# Altium integrated library ON Semi Signal Management Audio Switches.IntLib: 38 symbols (part 1 of 2)
Pins are listed as number, name and electrical type; pins without a type are passive.

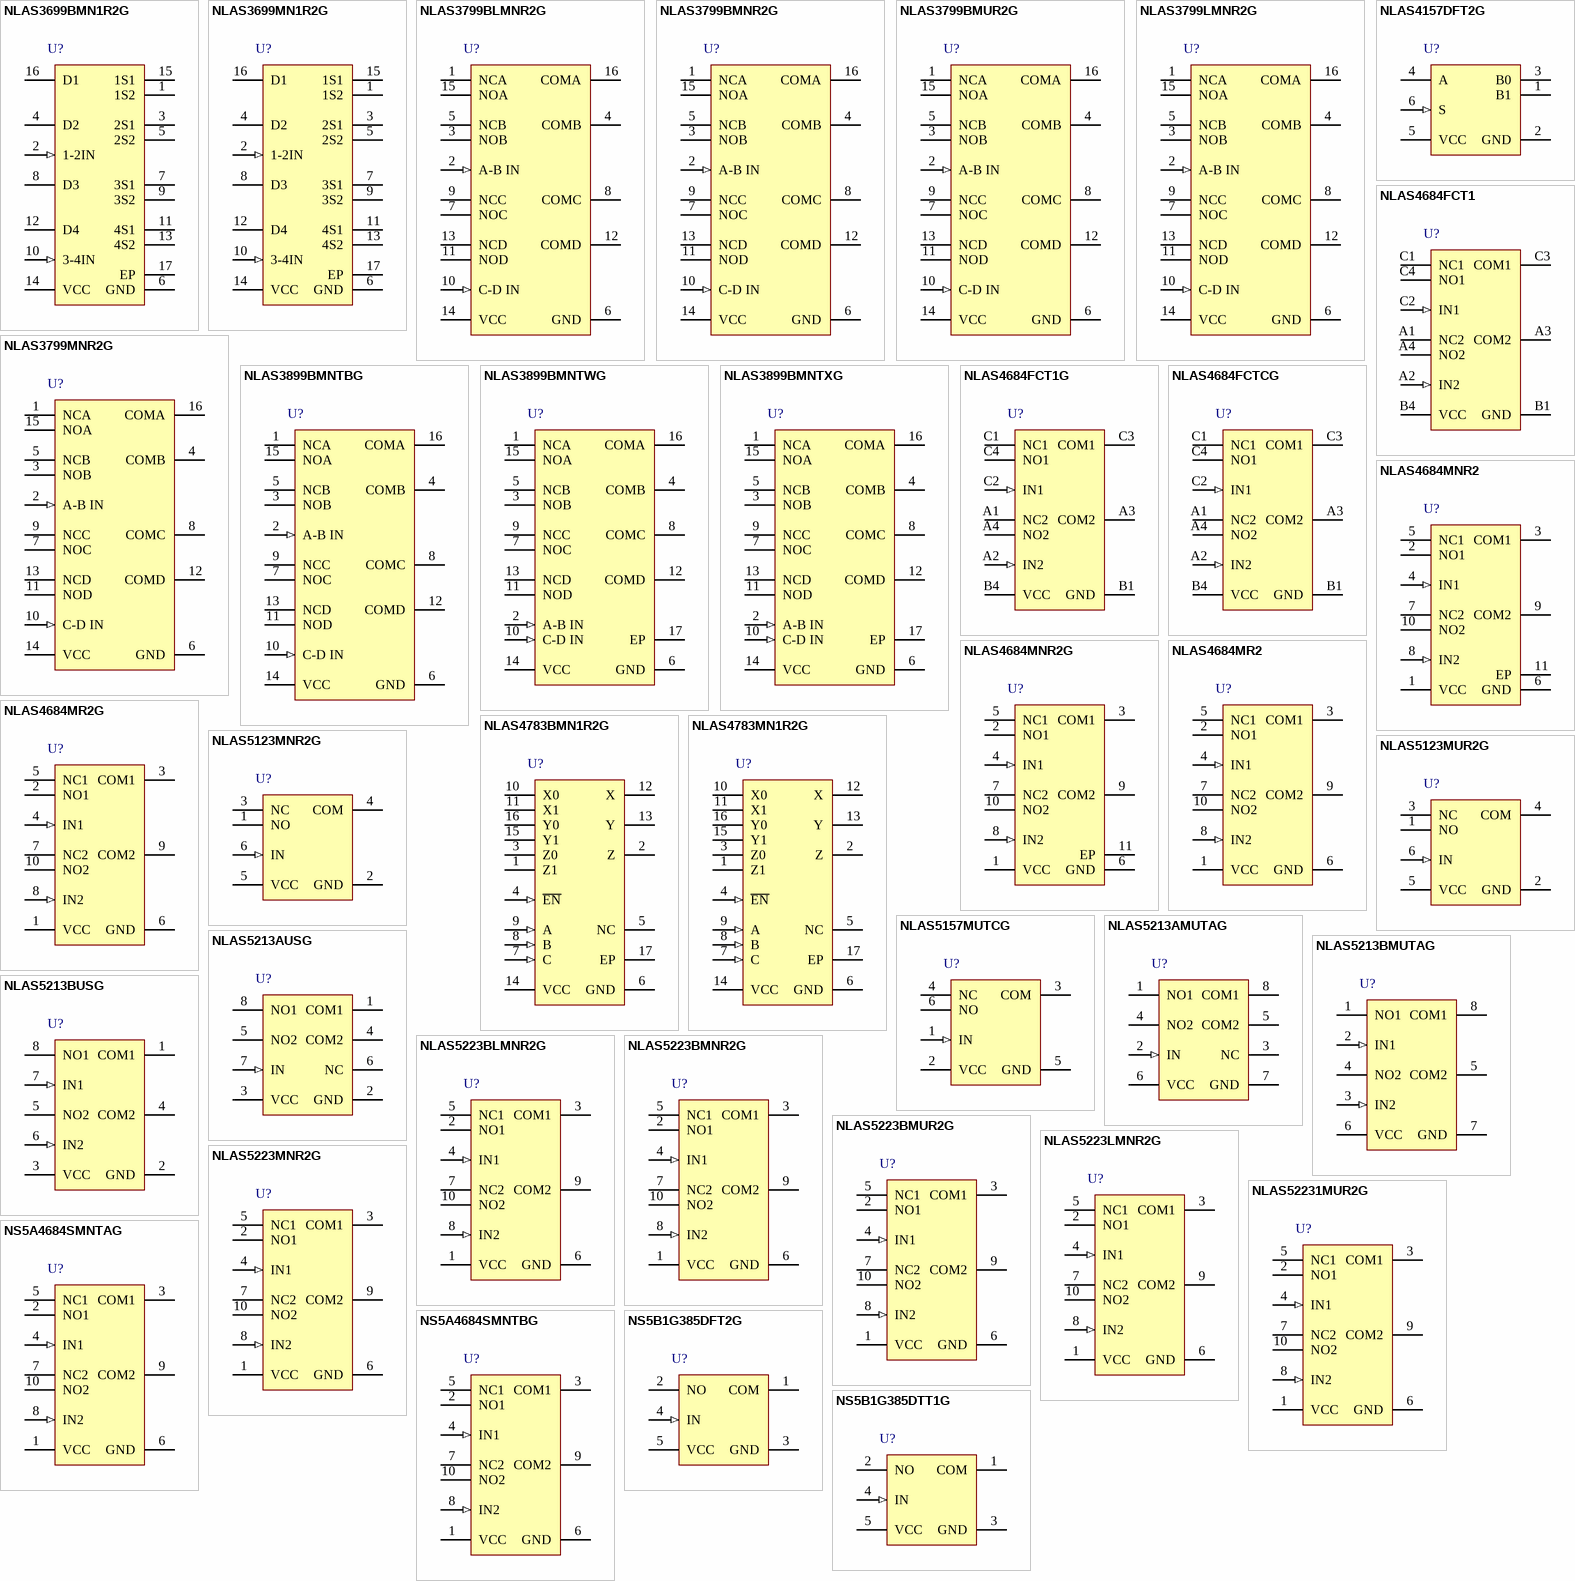
[diagram p0: symbols NLAS3699BMN1R2G to NS5B1G385DTT1G]

## NLAS3699BMN1R2G
designator U?
Dual DPDT Ultra-Low RON Switch, 1.65 to 4.5 V, -40 to 85 degC, 16-Pin QFN, Pb-Free, Tape and Reel; Manufacturer: On Semiconductor; PartNumber: NLAS3699BMN1R2G; VCC Max (V): 4.5; VCC Min (V): 1.65; DatasheetVersion: Rev. 0; PackageVersion: Rev. A, 06/2008; PackageReference: QFN-16-485AE-01_A; PackageDescription: 16-Pin Quad Flat No-Lead, Body 3 x 3 mm, Pitch 0.5 mm; Supplier 1: Digi-Key; Supplier Part Number 1: NLAS3699BMN1R2GOSTR-ND; Supplier 2: Digi-Key; Supplier Part Number 2: NLAS3699BMN1R2GOSCT-ND; Supplier 3: Mouser; Supplier Part Number 3: 863-NLAS3699BMN1R2G; Packing: Tape and Reel; RoHS: TRUE; Mounting Technology: Surface Mount; Code_JEDEC: MO-220; ComponentLink1Description: Manufacturer URL; ComponentLink1URL: http://www.onsemi.com/; ComponentLink2Description: Datasheet; ComponentLink2URL: http://www.onsemi.cn/pub_link/Collateral/NLAS3699B.PDF; ComponentLink3Description: Package Specification; ComponentLink3URL: http://www.onsemi.cn/pub_link/Collateral/NLAS3899B-D.PDF
footprint ONSC-QFN-16-485AE-01_A_N (QFN, 16-Leads, Body 3x3mm, Pitch 0.5mm, Thermal Pad 1.4x1.4mm, IPC Medium Density)
footprint ONSC-QFN-16-485AE-01_A_L (QFN, 16-Leads, Body 3x3mm, Pitch 0.5mm, Thermal Pad 1.4x1.4mm, IPC High Density)
footprint ONSC-QFN-16-485AE-01_A_M (QFN, 16-Leads, Body 3x3mm, Pitch 0.5mm, Thermal Pad 1.4x1.4mm, IPC Low Density)
pins: 1 1S2 "Independent Channels", 2 1-2IN (in) "Controls", 3 2S1 "Independent Channels", 4 D2 "Common Channels", 5 2S2 "Independent Channels", 6 GND (power) "Ground (V)", 7 3S1 "Independent Channels", 8 D3 "Common Channels", 9 3S2 "Independent Channels", 10 3-4IN (in) "Controls", 11 4S1 "Independent Channels", 12 D4 "Common Channels", 13 4S2 "Independent Channels", 14 VCC (power) "Positive Supply Voltage", 15 1S1 "Independent Channels", 16 D1 "Common Channels", 17 EP

## NLAS3699MN1R2G
designator U?
Dual DPDT Ultra-Low RON Switch, 1.65 to 3.6 V, -40 to 85 degC, 16-Pin QFN, Pb-Free, Tape and Reel; Manufacturer: On Semiconductor; PartNumber: NLAS3699MN1R2G; VCC Max (V): 3.6; VCC Min (V): 1.65; DatasheetVersion: Rev. 5; PackageVersion: Rev. A, 06/2008; PackageReference: QFN-16-485AE-01_A; PackageDescription: 16-Pin Quad Flat No-Lead, Body 3 x 3 mm, Pitch 0.5 mm; Supplier 1: Digi-Key; Supplier Part Number 1: NLAS3699MN1R2GOSTR-ND; Supplier 2: Digi-Key; Supplier Part Number 2: NLAS3699MN1R2GOSCT-ND; Supplier 3: Mouser; Supplier Part Number 3: 863-NLAS3699MN1R2G; Packing: Tape and Reel; RoHS: TRUE; Mounting Technology: Surface Mount; Code_JEDEC: MO-220; ComponentLink1Description: Manufacturer URL; ComponentLink1URL: http://www.onsemi.com/; ComponentLink2Description: Datasheet; ComponentLink2URL: http://www.onsemi.cn/pub_link/Collateral/NLAS3699-D.PDF; ComponentLink3Description: Package Specification; ComponentLink3URL: http://www.onsemi.cn/pub_link/Collateral/NLAS3899B-D.PDF
footprint ONSC-QFN-16-485AE-01_A_N (QFN, 16-Leads, Body 3x3mm, Pitch 0.5mm, Thermal Pad 1.4x1.4mm, IPC Medium Density)
footprint ONSC-QFN-16-485AE-01_A_L (QFN, 16-Leads, Body 3x3mm, Pitch 0.5mm, Thermal Pad 1.4x1.4mm, IPC High Density)
footprint ONSC-QFN-16-485AE-01_A_M (QFN, 16-Leads, Body 3x3mm, Pitch 0.5mm, Thermal Pad 1.4x1.4mm, IPC Low Density)
pins: 1 1S2 "Independent Channels", 2 1-2IN (in) "Controls", 3 2S1 "Independent Channels", 4 D2 "Common Channels", 5 2S2 "Independent Channels", 6 GND (power) "Ground (V)", 7 3S1 "Independent Channels", 8 D3 "Common Channels", 9 3S2 "Independent Channels", 10 3-4IN (in) "Controls", 11 4S1 "Independent Channels", 12 D4 "Common Channels", 13 4S2 "Independent Channels", 14 VCC (power) "Positive Supply Voltage", 15 1S1 "Independent Channels", 16 D1 "Common Channels", 17 EP

## NLAS3799BLMNR2G
designator U?
Dual DPDT Ultra-Low RON Switch, 1.65 to 4.5 V, -40 to 85 degC, 16-Pin WQFN, Pb-Free, Tape and Reel; Manufacturer: On Semiconductor; PartNumber: NLAS3799BLMNR2G; VCC Max (V): 4.5; VCC Min (V): 1.65; DatasheetVersion: Rev. 3; PackageVersion: Rev. B, 06/2008; PackageReference: WQFN-16-488AP-01; PackageDescription: 16-Pin Quad Flat No-Lead, Body 1.8 x 2.6 mm, Pitch 0.4 mm; Supplier 1: Digi-Key; Supplier Part Number 1: NLAS3799BLMNR2GOSTR-ND; Supplier 2: Digi-Key; Supplier Part Number 2: NLAS3799BLMNR2GOSCT-ND; Supplier 3: Mouser; Supplier Part Number 3: 863-NLAS3799BLMNR2G; Packing: Tape and Reel; RoHS: TRUE; Mounting Technology: Surface Mount; ComponentLink1Description: Manufacturer URL; ComponentLink1URL: http://www.onsemi.com/; ComponentLink2Description: Datasheet; ComponentLink2URL: http://www.onsemi.cn/pub_link/Collateral/NLAS3799B-D.PDF; ComponentLink3Description: Package Specification; ComponentLink3URL: http://www.onsemi.cn/pub_link/Collateral/488AP.PDF
footprint ONSC-WQFN-16-488AP-01_V (QFN, 16-Leads, Body 2.6x1.8mm, Pitch 0.4mm)
pins: 1 NCA "Independent Channels", 2 A-B IN (in) "Controls", 3 NOB "Independent Channels", 4 COMB "Common Channels", 5 NCB "Independent Channels", 6 GND (power) "Ground (V)", 7 NOC "Independent Channels", 8 COMC "Common Channels", 9 NCC "Independent Channels", 10 C-D IN (in) "Controls", 11 NOD "Independent Channels", 12 COMD "Common Channels", 13 NCD "Independent Channels", 14 VCC (power) "Positive Supply Voltage", 15 NOA "Independent Channels", 16 COMA "Common Channels"

## NLAS3799BMNR2G
designator U?
Dual DPDT Ultra-Low RON Switch, 1.65 to 4.5 V, -40 to 85 degC, 16-Pin WQFN, Pb-Free, Tape and Reel; Manufacturer: On Semiconductor; PartNumber: NLAS3799BMNR2G; VCC Max (V): 4.5; VCC Min (V): 1.65; DatasheetVersion: Rev. 3; PackageVersion: Rev. B, 06/2008; PackageReference: WQFN-16-488AP-01; PackageDescription: 16-Pin Quad Flat No-Lead, Body 1.8 x 2.6 mm, Pitch 0.4 mm; Supplier 1: Digi-Key; Supplier Part Number 1: NLAS3799BMNR2GOSTR-ND; Supplier 2: Digi-Key; Supplier Part Number 2: NLAS3799BMNR2GOSCT-ND; Supplier 3: Mouser; Supplier Part Number 3: 863-NLAS3799BMNR2G; Packing: Tape and Reel; RoHS: TRUE; Mounting Technology: Surface Mount; ComponentLink1Description: Manufacturer URL; ComponentLink1URL: http://www.onsemi.com/; ComponentLink2Description: Datasheet; ComponentLink2URL: http://www.onsemi.cn/pub_link/Collateral/NLAS3799B-D.PDF; ComponentLink3Description: Package Specification; ComponentLink3URL: http://www.onsemi.cn/pub_link/Collateral/488AP.PDF
footprint ONSC-WQFN-16-488AP-01_V (QFN, 16-Leads, Body 2.6x1.8mm, Pitch 0.4mm)
pins: 1 NCA "Independent Channels", 2 A-B IN (in) "Controls", 3 NOB "Independent Channels", 4 COMB "Common Channels", 5 NCB "Independent Channels", 6 GND (power) "Ground (V)", 7 NOC "Independent Channels", 8 COMC "Common Channels", 9 NCC "Independent Channels", 10 C-D IN (in) "Controls", 11 NOD "Independent Channels", 12 COMD "Common Channels", 13 NCD "Independent Channels", 14 VCC (power) "Positive Supply Voltage", 15 NOA "Independent Channels", 16 COMA "Common Channels"

## NLAS3799BMUR2G
designator U?
Dual DPDT Ultra-Low RON Switch, 1.65 to 4.5 V, -40 to 85 degC, 16-Pin UQFN, Pb-Free, Tape and Reel; Manufacturer: On Semiconductor; PartNumber: NLAS3799BMUR2G; VCC Max (V): 4.5; VCC Min (V): 1.65; DatasheetVersion: Rev. 3; PackageVersion: Rev. A, 08/2007; PackageReference: UQFN-16-488AU-01; PackageDescription: 16-Pin Quad Flat No-Lead, Body 1.8 x 2.6 mm, Pitch 0.4 mm; Supplier 1: Digi-Key; Supplier Part Number 1: NLAS3799BMUR2GOSTR-ND; Supplier 2: Digi-Key; Supplier Part Number 2: NLAS3799BMUR2GOSCT-ND; Supplier 3: Mouser; Supplier Part Number 3: 863-NLAS3799BMUR2G; Packing: Tape and Reel; RoHS: TRUE; Mounting Technology: Surface Mount; ComponentLink1Description: Manufacturer URL; ComponentLink1URL: http://www.onsemi.com/; ComponentLink2Description: Datasheet; ComponentLink2URL: http://www.onsemi.cn/pub_link/Collateral/NLAS3799B-D.PDF; ComponentLink3Description: Package Specification; ComponentLink3URL: http://www.onsemi.cn/pub_link/Collateral/488AU.PDF
footprint ONSC-UQFN-16-488AU-01_V (QFN, 16-Leads, Body 2.6x1.8mm, Pitch 0.4mm)
pins: 1 NCA "Independent Channels", 2 A-B IN (in) "Controls", 3 NOB "Independent Channels", 4 COMB "Common Channels", 5 NCB "Independent Channels", 6 GND (power) "Ground (V)", 7 NOC "Independent Channels", 8 COMC "Common Channels", 9 NCC "Independent Channels", 10 C-D IN (in) "Controls", 11 NOD "Independent Channels", 12 COMD "Common Channels", 13 NCD "Independent Channels", 14 VCC (power) "Positive Supply Voltage", 15 NOA "Independent Channels", 16 COMA "Common Channels"

## NLAS3799LMNR2G
designator U?
Dual DPDT Ultra-Low RON Switch, 1.65 to 3.6 V, -40 to 85 degC, 16-Pin WQFN, Pb-Free, Tape and Reel; Manufacturer: On Semiconductor; PartNumber: NLAS3799LMNR2G; VCC Max (V): 3.6; VCC Min (V): 1.65; DatasheetVersion: Rev. 3; PackageVersion: Rev. B, 06/2008; PackageReference: WQFN-16-488AP-01; PackageDescription: 16-Pin Quad Flat No-Lead, Body 1.8 x 2.6 mm, Pitch 0.4 mm; Supplier 1: Digi-Key; Supplier Part Number 1: NLAS3799LMNR2GOSTR-ND; Supplier 2: Digi-Key; Supplier Part Number 2: NLAS3799LMNR2GOSCT-ND; Supplier 3: Newark; Supplier Part Number 3: 79K1893; Supplier 4: Mouser; Supplier Part Number 4: 863-NLAS3799LMNR2G; Packing: Tape and Reel; RoHS: TRUE; Mounting Technology: Surface Mount; ComponentLink1Description: Manufacturer URL; ComponentLink1URL: http://www.onsemi.com/; ComponentLink2Description: Datasheet; ComponentLink2URL: http://www.onsemi.cn/pub_link/Collateral/NLAS3799-D.PDF; ComponentLink3Description: Package Specification; ComponentLink3URL: http://www.onsemi.cn/pub_link/Collateral/488AP.PDF
footprint ONSC-WQFN-16-488AP-01_V (QFN, 16-Leads, Body 2.6x1.8mm, Pitch 0.4mm)
pins: 1 NCA "Independent Channels", 2 A-B IN (in) "Controls", 3 NOB "Independent Channels", 4 COMB "Common Channels", 5 NCB "Independent Channels", 6 GND (power) "Ground (V)", 7 NOC "Independent Channels", 8 COMC "Common Channels", 9 NCC "Independent Channels", 10 C-D IN (in) "Controls", 11 NOD "Independent Channels", 12 COMD "Common Channels", 13 NCD "Independent Channels", 14 VCC (power) "Positive Supply Voltage", 15 NOA "Independent Channels", 16 COMA "Common Channels"

## NLAS3799MNR2G
designator U?
Dual DPDT Ultra-Low RON Switch, 1.65 to 3.6 V, -40 to 85 degC, 16-Pin WQFN, Pb-Free, Tape and Reel; Manufacturer: On Semiconductor; PartNumber: NLAS3799MNR2G; VCC Max (V): 3.6; VCC Min (V): 1.65; DatasheetVersion: Rev. 3; PackageVersion: Rev. B, 06/2008; PackageReference: WQFN-16-488AP-01; PackageDescription: 16-Pin Quad Flat No-Lead, Body 1.8 x 2.6 mm, Pitch 0.4 mm; Supplier 1: Digi-Key; Supplier Part Number 1: NLAS3799MNR2GOSTR-ND; Supplier 2: Digi-Key; Supplier Part Number 2: NLAS3799MNR2GOSCT-ND; Supplier 3: Mouser; Supplier Part Number 3: 863-NLAS3799MNR2G; Packing: Tape and Reel; RoHS: TRUE; Mounting Technology: Surface Mount; ComponentLink1Description: Manufacturer URL; ComponentLink1URL: http://www.onsemi.com/; ComponentLink2Description: Datasheet; ComponentLink2URL: http://www.onsemi.cn/pub_link/Collateral/NLAS3799-D.PDF; ComponentLink3Description: Package Specification; ComponentLink3URL: http://www.onsemi.cn/pub_link/Collateral/488AP.PDF
footprint ONSC-WQFN-16-488AP-01_V (QFN, 16-Leads, Body 2.6x1.8mm, Pitch 0.4mm)
pins: 1 NCA "Independent Channels", 2 A-B IN (in) "Controls", 3 NOB "Independent Channels", 4 COMB "Common Channels", 5 NCB "Independent Channels", 6 GND (power) "Ground (V)", 7 NOC "Independent Channels", 8 COMC "Common Channels", 9 NCC "Independent Channels", 10 C-D IN (in) "Controls", 11 NOD "Independent Channels", 12 COMD "Common Channels", 13 NCD "Independent Channels", 14 VCC (power) "Positive Supply Voltage", 15 NOA "Independent Channels", 16 COMA "Common Channels"

## NLAS3899BMNTBG
designator U?
Dual DPDT Low RON, Low Capacitance Switch, 1.65 to 4.3 V, -40 to 85 degC, 16-Pin WQFN, Pb-Free, Tape and Reel; Manufacturer: On Semiconductor; PartNumber: NLAS3899BMNTBG; Icc Max (uA): 2; VCC Max (V): 4.3; VCC Min (V): 1.65; DatasheetVersion: Rev. 1; PackageVersion: Rev. B, 06/2008; PackageReference: WQFN-16-488AP-01; PackageDescription: 16-Pin Quad Flat No-Lead, Body 1.8 x 2.6 mm, Pitch 0.4 mm; Supplier 1: Digi-Key; Supplier Part Number 1: NLAS3899BMNTBG-ND; Supplier 2: Newark; Supplier Part Number 2: 13P5566; Supplier 3: Mouser; Supplier Part Number 3: 863-NLAS3899BMNTBG; Packing: Tape and Reel; RoHS: TRUE; Mounting Technology: Surface Mount; ComponentLink1Description: Manufacturer URL; ComponentLink1URL: http://www.onsemi.com/; ComponentLink2Description: Datasheet; ComponentLink2URL: http://www.onsemi.cn/pub_link/Collateral/NLAS3899B-D.PDF; ComponentLink3Description: Package Specification; ComponentLink3URL: http://www.onsemi.cn/pub_link/Collateral/488AP.PDF
footprint ONSC-WQFN-16-488AP-01_V (QFN, 16-Leads, Body 2.6x1.8mm, Pitch 0.4mm)
pins: 1 NCA "Independent Channels", 2 A-B IN (in) "Controls", 3 NOB "Independent Channels", 4 COMB "Common Channels", 5 NCB "Independent Channels", 6 GND (power) "Ground (V)", 7 NOC "Independent Channels", 8 COMC "Common Channels", 9 NCC "Independent Channels", 10 C-D IN (in) "Controls", 11 NOD "Independent Channels", 12 COMD "Common Channels", 13 NCD "Independent Channels", 14 VCC (power) "Positive Supply Voltage", 15 NOA "Independent Channels", 16 COMA "Common Channels"

## NLAS3899BMNTWG
designator U?
Dual DPDT Low RON, Low Capacitance Switch, 1.65 to 4.3 V, -40 to 85 degC, 16-Pin QFN, Pb-Free, Tape and Reel; Manufacturer: On Semiconductor; PartNumber: NLAS3899BMNTWG; Icc Max (uA): 2; VCC Max (V): 4.3; VCC Min (V): 1.65; DatasheetVersion: Rev. 1; PackageVersion: Rev. A, 06/2008; PackageReference: QFN-16-485AE-01_A; PackageDescription: 16-Pin Quad Flat No-Lead, Body 3 x 3 mm, Pitch 0.5 mm; Supplier 1: Digi-Key; Supplier Part Number 1: NLAS3899BMNTWG-ND; Supplier 2: Newark; Supplier Part Number 2: 72W2266; Supplier 3: Mouser; Supplier Part Number 3: 863-NLAS3899BMNTWG; Packing: Tape and Reel; RoHS: TRUE; Mounting Technology: Surface Mount; Code_JEDEC: MO-220; ComponentLink1Description: Manufacturer URL; ComponentLink1URL: http://www.onsemi.com/; ComponentLink2Description: Datasheet; ComponentLink2URL: http://www.onsemi.cn/pub_link/Collateral/NLAS3899B-D.PDF; ComponentLink3Description: Package Specification; ComponentLink3URL: http://www.onsemi.cn/pub_link/Collateral/NLAS3899B-D.PDF
footprint ONSC-QFN-16-485AE-01_A_N (QFN, 16-Leads, Body 3x3mm, Pitch 0.5mm, Thermal Pad 1.4x1.4mm, IPC Medium Density)
footprint ONSC-QFN-16-485AE-01_A_L (QFN, 16-Leads, Body 3x3mm, Pitch 0.5mm, Thermal Pad 1.4x1.4mm, IPC High Density)
footprint ONSC-QFN-16-485AE-01_A_M (QFN, 16-Leads, Body 3x3mm, Pitch 0.5mm, Thermal Pad 1.4x1.4mm, IPC Low Density)
pins: 1 NCA "Independent Channel", 2 A-B IN (in) "Control", 3 NOB "Independent Channel", 4 COMB "Common Channel", 5 NCB "Independent Channel", 6 GND (power) "Ground (V)", 7 NOC "Independent Channel", 8 COMC "Common Channel", 9 NCC "Independent Channel", 10 C-D IN (in) "Control", 11 NOD "Independent Channel", 12 COMD "Common Channel", 13 NCD "Independent Channel", 14 VCC (power) "Positive Supply Voltage", 15 NOA "Independent Channel", 16 COMA "Common Channel", 17 EP

## NLAS3899BMNTXG
designator U?
Dual DPDT Low RON, Low Capacitance Switch, 1.65 to 4.3 V, -40 to 85 degC, 16-Pin QFN, Pb-Free, Tape and Reel; Manufacturer: On Semiconductor; PartNumber: NLAS3899BMNTXG; Icc Max (uA): 2; VCC Max (V): 4.3; VCC Min (V): 1.65; DatasheetVersion: Rev. 1; PackageVersion: Rev. A, 06/2008; PackageReference: QFN-16-485AE-01_A; PackageDescription: 16-Pin Quad Flat No-Lead, Body 3 x 3 mm, Pitch 0.5 mm; Supplier 1: Digi-Key; Supplier Part Number 1: NLAS3899BMNTXG-ND; Supplier 2: Mouser; Supplier Part Number 2: 863-NLAS3899BMNTXG; Packing: Tape and Reel; RoHS: TRUE; Mounting Technology: Surface Mount; Code_JEDEC: MO-220; ComponentLink1Description: Manufacturer URL; ComponentLink1URL: http://www.onsemi.com/; ComponentLink2Description: Datasheet; ComponentLink2URL: http://www.onsemi.cn/pub_link/Collateral/NLAS3899B-D.PDF; ComponentLink3Description: Package Specification; ComponentLink3URL: http://www.onsemi.cn/pub_link/Collateral/NLAS3899B-D.PDF
footprint ONSC-QFN-16-485AE-01_A_N (QFN, 16-Leads, Body 3x3mm, Pitch 0.5mm, Thermal Pad 1.4x1.4mm, IPC Medium Density)
footprint ONSC-QFN-16-485AE-01_A_L (QFN, 16-Leads, Body 3x3mm, Pitch 0.5mm, Thermal Pad 1.4x1.4mm, IPC High Density)
footprint ONSC-QFN-16-485AE-01_A_M (QFN, 16-Leads, Body 3x3mm, Pitch 0.5mm, Thermal Pad 1.4x1.4mm, IPC Low Density)
pins: 1 NCA "Independent Channel", 2 A-B IN (in) "Control", 3 NOB "Independent Channel", 4 COMB "Common Channel", 5 NCB "Independent Channel", 6 GND (power) "Ground (V)", 7 NOC "Independent Channel", 8 COMC "Common Channel", 9 NCC "Independent Channel", 10 C-D IN (in) "Control", 11 NOD "Independent Channel", 12 COMD "Common Channel", 13 NCD "Independent Channel", 14 VCC (power) "Positive Supply Voltage", 15 NOA "Independent Channel", 16 COMA "Common Channel", 17 EP

## NLAS4157DFT2G
designator U?
SPDT, 1.0 Ohm RON Switch, 1.65 to 5.5 V, -40 to 85 degC, 6-Pin SC70, Pb-Free, Tape and Reel; Manufacturer: On Semiconductor; PartNumber: NLAS4157DFT2G; VCC Max (V): 5.5; VCC Min (V): 1.65; DatasheetVersion: Rev. 3; PackageVersion: Rev. W, 01/2006; PackageReference: SC70-6-419B-02_W; PackageDescription: 6-Pin Small Outline Transistor, Body 2 x 1.25 mm, Pitch 0.65 mm; Supplier 1: Digi-Key; Supplier Part Number 1: NLAS4157DFT2GOSTR-ND; Supplier 2: Digi-Key; Supplier Part Number 2: NLAS4157DFT2GOSCT-ND; Supplier 3: Digi-Key; Supplier Part Number 3: NLAS4157DFT2GOSDKR-ND; Supplier 4: Newark; Supplier Part Number 4: 26K5055; Supplier 5: Mouser; Supplier Part Number 5: 863-NLAS4157DFT2G; Packing: Tape and Reel; RoHS: TRUE; Mounting Technology: Surface Mount; ComponentLink1Description: Manufacturer URL; ComponentLink1URL: http://www.onsemi.com/; ComponentLink2Description: Datasheet; ComponentLink2URL: http://www.onsemi.cn/pub_link/Collateral/NLAS4157-D.PDF; ComponentLink3Description: Package Specification; ComponentLink3URL: http://www.onsemi.com/pub_link/Collateral/SMF05C-D.PDF
footprint ONSC-SC70-6-419B-02_W_V (SOT23, 6-Leads, Body 2.2x1.35mm, Pitch 0.65mm)
pins: 1 B1, 2 GND (power), 3 B0, 4 A, 5 VCC (power), 6 S (in)

## NLAS4684FCT1
designator U?
Ultra-Low Resistance Dual SPDT Analog Switch, 1.8 to 5.5 V, -55 to 125 degC, 10-Pin FLIP-CHIP, Pb-Free, Tape and Reel; Manufacturer: On Semiconductor; PartNumber: NLAS4684FCT1; VCC Max (V): 5.5; VCC Min (V): 1.8; DatasheetVersion: Rev. 20; PackageVersion: Rev. A, 05/2004; PackageReference: FLIP-CHIP-10-489AA-01; PackageDescription: 10-Ball Flip Chip Ball Grid Array, Body 1.965 x 1.465 mm, Pitch 0.5 mm; Supplier 1: Digi-Key; Supplier Part Number 1: NLAS4684FCT1-ND; Packing: Tape and Reel; RoHS: FALSE; Mounting Technology: Surface Mount; ComponentLink1Description: Manufacturer URL; ComponentLink1URL: http://www.onsemi.com/; ComponentLink2Description: Datasheet; ComponentLink2URL: http://www.onsemi.cn/pub_link/Collateral/NLAS4684-D.PDF; ComponentLink3Description: Package Specification; ComponentLink3URL: http://www.onsemi.cn/pub_link/Collateral/489AA.PDF
footprint ONSC-FLIP-CHIP-10-489AA-01 (BGA, 10-Balls, Body 1.97x1.47mm, Pitch 0.5mm)
pins: A1 NC2, A2 IN2 (in), A3 COM2, A4 NO2, B1 GND (power), B4 VCC (power), C1 NC1, C2 IN1 (in), C3 COM1, C4 NO1

## NLAS4684FCT1G
designator U?
Ultra-Low Resistance Dual SPDT Analog Switch, 1.8 to 5.5 V, -55 to 125 degC, 10-Pin FLIP-CHIP, Pb-Free, Tape and Reel; Manufacturer: On Semiconductor; PartNumber: NLAS4684FCT1G; VCC Max (V): 5.5; VCC Min (V): 1.8; DatasheetVersion: Rev. 20; PackageVersion: Rev. A, 05/2004; PackageReference: FLIP-CHIP-10-489AA-01; PackageDescription: 10-Ball Flip Chip Ball Grid Array, Body 1.965 x 1.465 mm, Pitch 0.5 mm; Supplier 1: Digi-Key; Supplier Part Number 1: NLAS4684FCT1GOSTR-ND; Supplier 2: Digi-Key; Supplier Part Number 2: NLAS4684FCT1GOSCT-ND; Supplier 3: Digi-Key; Supplier Part Number 3: NLAS4684FCT1GOSDKR-ND; Supplier 4: Mouser; Supplier Part Number 4: 863-NLAS4684FCT1G; Packing: Tape and Reel; RoHS: TRUE; Mounting Technology: Surface Mount; ComponentLink1Description: Manufacturer URL; ComponentLink1URL: http://www.onsemi.com/; ComponentLink2Description: Datasheet; ComponentLink2URL: http://www.onsemi.cn/pub_link/Collateral/NLAS4684-D.PDF; ComponentLink3Description: Package Specification; ComponentLink3URL: http://www.onsemi.cn/pub_link/Collateral/489AA.PDF
footprint ONSC-FLIP-CHIP-10-489AA-01 (BGA, 10-Balls, Body 1.97x1.47mm, Pitch 0.5mm)
pins: A1 NC2, A2 IN2 (in), A3 COM2, A4 NO2, B1 GND (power), B4 VCC (power), C1 NC1, C2 IN1 (in), C3 COM1, C4 NO1

## NLAS4684FCTCG
designator U?
Ultra-Low Resistance Dual SPDT Analog Switch, 1.8 to 5.5 V, -55 to 125 degC, 10-Pin FLIP-CHIP, Pb-Free, Tape and Reel; Manufacturer: On Semiconductor; PartNumber: NLAS4684FCTCG; VCC Max (V): 5.5; VCC Min (V): 1.8; DatasheetVersion: Rev. 20; PackageVersion: Rev. A, 05/2004; PackageReference: FLIP-CHIP-10-489AA-01; PackageDescription: 10-Ball Flip Chip Ball Grid Array, Body 1.965 x 1.465 mm, Pitch 0.5 mm; Supplier 1: Digi-Key; Supplier Part Number 1: NLAS4684FCTCG-ND; Supplier 2: Mouser; Supplier Part Number 2: 863-NLAS4684FCTCG; Packing: Tape and Reel; RoHS: TRUE; Mounting Technology: Surface Mount; ComponentLink1Description: Manufacturer URL; ComponentLink1URL: http://www.onsemi.com/; ComponentLink2Description: Datasheet; ComponentLink2URL: http://www.onsemi.cn/pub_link/Collateral/NLAS4684-D.PDF; ComponentLink3Description: Package Specification; ComponentLink3URL: http://www.onsemi.cn/pub_link/Collateral/489AA.PDF
footprint ONSC-FLIP-CHIP-10-489AA-01 (BGA, 10-Balls, Body 1.97x1.47mm, Pitch 0.5mm)
pins: A1 NC2, A2 IN2 (in), A3 COM2, A4 NO2, B1 GND (power), B4 VCC (power), C1 NC1, C2 IN1 (in), C3 COM1, C4 NO1

## NLAS4684MNR2
designator U?
Ultra-Low Resistance Dual SPDT Analog Switch, 1.8 to 5.5 V, -55 to 125 degC, 10-Pin DFN, Pb-Free, Tape and Reel; Manufacturer: On Semiconductor; PartNumber: NLAS4684MNR2; VCC Max (V): 5.5; VCC Min (V): 1.8; DatasheetVersion: Rev. 20; PackageVersion: Rev. A, 10/2005; PackageReference: DFN-10-485C_A; PackageDescription: 10-Pin Small Outline No-Lead, Body 3 x 3 mm, Pitch 0.5 mm; Supplier 1: Digi-Key; Supplier Part Number 1: NLAS4684MNR2OSTR-ND; Supplier 2: Digi-Key; Supplier Part Number 2: NLAS4684MNR2OSCT-ND; Packing: Tape and Reel; RoHS: FALSE; Mounting Technology: Surface Mount; ComponentLink1Description: Manufacturer URL; ComponentLink1URL: http://www.onsemi.com/; ComponentLink2Description: Datasheet; ComponentLink2URL: http://www.onsemi.cn/pub_link/Collateral/NLAS4684-D.PDF; ComponentLink3Description: Package Specification; ComponentLink3URL: http://www.onsemi.cn/pub_link/Collateral/NLAS4684-D.PDF
footprint ONSC-DFN-10-485C_A_V (SON, 10-Leads, Body 3x3mm, Pitch 0.5mm, Thermal Pad 1.851x2.602mm)
pins: 1 VCC (power), 2 NO1, 3 COM1, 4 IN1 (in), 5 NC1, 6 GND (power), 7 NC2, 8 IN2 (in), 9 COM2, 10 NO2, 11 EP

## NLAS4684MNR2G
designator U?
Ultra-Low Resistance Dual SPDT Analog Switch, 1.8 to 5.5 V, -55 to 125 degC, 10-Pin DFN, Pb-Free, Tape and Reel; Manufacturer: On Semiconductor; PartNumber: NLAS4684MNR2G; VCC Max (V): 5.5; VCC Min (V): 1.8; DatasheetVersion: Rev. 20; PackageVersion: Rev. A, 10/2005; PackageReference: DFN-10-485C_A; PackageDescription: 10-Pin Small Outline No-Lead, Body 3 x 3 mm, Pitch 0.5 mm; Supplier 1: Digi-Key; Supplier Part Number 1: NLAS4684MNR2GOSTR-ND; Supplier 2: Digi-Key; Supplier Part Number 2: NLAS4684MNR2GOSCT-ND; Supplier 3: Digi-Key; Supplier Part Number 3: NLAS4684MNR2GOSDKR-ND; Supplier 4: Newark; Supplier Part Number 4: 45J2054; Supplier 5: Mouser; Supplier Part Number 5: 863-NLAS4684MNR2G; Packing: Tape and Reel; RoHS: TRUE; Mounting Technology: Surface Mount; ComponentLink1Description: Manufacturer URL; ComponentLink1URL: http://www.onsemi.com/; ComponentLink2Description: Datasheet; ComponentLink2URL: http://www.onsemi.cn/pub_link/Collateral/NLAS4684-D.PDF; ComponentLink3Description: Package Specification; ComponentLink3URL: http://www.onsemi.cn/pub_link/Collateral/NLAS4684-D.PDF
footprint ONSC-DFN-10-485C_A_V (SON, 10-Leads, Body 3x3mm, Pitch 0.5mm, Thermal Pad 1.851x2.602mm)
pins: 1 VCC (power), 2 NO1, 3 COM1, 4 IN1 (in), 5 NC1, 6 GND (power), 7 NC2, 8 IN2 (in), 9 COM2, 10 NO2, 11 EP

## NLAS4684MR2
designator U?
Ultra-Low Resistance Dual SPDT Analog Switch, 1.8 to 5.5 V, -55 to 125 degC, 10-Pin MICRO, Pb-Free, Tape and Reel; Manufacturer: On Semiconductor; PartNumber: NLAS4684MR2; VCC Max (V): 5.5; VCC Min (V): 1.8; DatasheetVersion: Rev. 20; PackageVersion: Rev. D, 12/2004; PackageReference: MICRO-10-846B-03; PackageDescription: 10-Pin Micro Small Outline Package, Body 3 x 3 mm, Pitch 0.5 mm; Supplier 1: Digi-Key; Supplier Part Number 1: NLAS4684MR2OSTR-ND; Supplier 2: Digi-Key; Supplier Part Number 2: NLAS4684MR2OSCT-ND; Supplier 3: Digi-Key; Supplier Part Number 3: NLAS4684MR2OSDKR-ND; Packing: Tape and Reel; RoHS: FALSE; Mounting Technology: Surface Mount; ComponentLink1Description: Manufacturer URL; ComponentLink1URL: http://www.onsemi.com/; ComponentLink2Description: Datasheet; ComponentLink2URL: http://www.onsemi.cn/pub_link/Collateral/NLAS4684-D.PDF; ComponentLink3Description: Package Specification; ComponentLink3URL: http://www.onsemi.cn/pub_link/Collateral/846B-02.PDF
footprint ONSC-MICRO-10-846B-03_V (SOP, 10-Leads, Body 3.1x3.1mm, Pitch 0.5mm)
pins: 1 VCC (power), 2 NO1, 3 COM1, 4 IN1 (in), 5 NC1, 6 GND (power), 7 NC2, 8 IN2 (in), 9 COM2, 10 NO2

## NLAS4684MR2G
designator U?
Ultra-Low Resistance Dual SPDT Analog Switch, 1.8 to 5.5 V, -55 to 125 degC, 10-Pin MICRO, Pb-Free, Tape and Reel; Manufacturer: On Semiconductor; PartNumber: NLAS4684MR2G; VCC Max (V): 5.5; VCC Min (V): 1.8; DatasheetVersion: Rev. 20; PackageVersion: Rev. D, 12/2004; PackageReference: MICRO-10-846B-03; PackageDescription: 10-Pin Micro Small Outline Package, Body 3 x 3 mm, Pitch 0.5 mm; Supplier 1: Digi-Key; Supplier Part Number 1: NLAS4684MR2GOSTR-ND; Supplier 2: Digi-Key; Supplier Part Number 2: NLAS4684MR2GOSCT-ND; Supplier 3: Digi-Key; Supplier Part Number 3: NLAS4684MR2GOSDKR-ND; Supplier 4: Newark; Supplier Part Number 4: 71J6945; Supplier 5: Mouser; Supplier Part Number 5: 863-NLAS4684MR2G; Packing: Tape and Reel; RoHS: TRUE; Mounting Technology: Surface Mount; ComponentLink1Description: Manufacturer URL; ComponentLink1URL: http://www.onsemi.com/; ComponentLink2Description: Datasheet; ComponentLink2URL: http://www.onsemi.cn/pub_link/Collateral/NLAS4684-D.PDF; ComponentLink3Description: Package Specification; ComponentLink3URL: http://www.onsemi.cn/pub_link/Collateral/846B-02.PDF
footprint ONSC-MICRO-10-846B-03_V (SOP, 10-Leads, Body 3.1x3.1mm, Pitch 0.5mm)
pins: 1 VCC (power), 2 NO1, 3 COM1, 4 IN1 (in), 5 NC1, 6 GND (power), 7 NC2, 8 IN2 (in), 9 COM2, 10 NO2

## NLAS4783BMN1R2G
designator U?
Triple SPDT 1.0 Ohm RON Switch, 1.65 to 4.5 V, -40 to 85 degC, 16-Pin QFN, Pb-Free, Tape and Reel; Manufacturer: On Semiconductor; PartNumber: NLAS4783BMN1R2G; VCC Max (V): 4.5; VCC Min (V): 1.65; DatasheetVersion: Rev. 1; PackageVersion: Rev. A, 06/2008; PackageReference: QFN-16-485AE-01_A; PackageDescription: 16-Pin Quad Flat No-Lead, Body 3 x 3 mm, Pitch 0.5 mm; Supplier 1: Digi-Key; Supplier Part Number 1: NLAS4783BMN1R2GOSTR-ND; Supplier 2: Digi-Key; Supplier Part Number 2: NLAS4783BMN1R2GOSCT-ND; Supplier 3: Mouser; Supplier Part Number 3: 863-NLAS4783BMN1R2G; Packing: Tape and Reel; RoHS: TRUE; Mounting Technology: Surface Mount; Code_JEDEC: MO-220; ComponentLink1Description: Manufacturer URL; ComponentLink1URL: http://www.onsemi.com/; ComponentLink2Description: Datasheet; ComponentLink2URL: http://www.onsemi.cn/pub_link/Collateral/NLAS4783B-D.PDF; ComponentLink3Description: Package Specification; ComponentLink3URL: http://www.onsemi.cn/pub_link/Collateral/NLAS3899B-D.PDF
footprint ONSC-QFN-16-485AE-01_A_N (QFN, 16-Leads, Body 3x3mm, Pitch 0.5mm, Thermal Pad 1.4x1.4mm, IPC Medium Density)
footprint ONSC-QFN-16-485AE-01_A_L (QFN, 16-Leads, Body 3x3mm, Pitch 0.5mm, Thermal Pad 1.4x1.4mm, IPC High Density)
footprint ONSC-QFN-16-485AE-01_A_M (QFN, 16-Leads, Body 3x3mm, Pitch 0.5mm, Thermal Pad 1.4x1.4mm, IPC Low Density)
pins: 1 Z1 "Analog Switch Z Normally Open Input", 2 Z "Analog Switch Z Output", 3 Z0 "Analog Switch Z Normally Closed Input", 4 ~{EN} (in) "Digital Enable Input. Normally connect to GND. Drive to logic high to set all switches off.", 5 NC "No Connection. Not internally connected.", 6 GND (power) "Ground", 7 C (in) "Digital Address C Input", 8 B (in) "Digital Address B Input", 9 A (in) "Digital Address A Input", 10 X0 "Analog Switch X Normally Closed Input", 11 X1 "Analog Switch X Normally Open Input", 12 X "Analog Switch X Output", 13 Y "Analog Switch Y Output", 14 VCC (power) "Positive Analog and Digital Supply Voltage Input", 15 Y1 "Analog Switch Y Normally Open Input", 16 Y0 "Analog Switch Y Normally Closed Input", 17 EP

## NLAS4783MN1R2G
designator U?
Triple SPDT 1.0 Ohm RON Switch, 1.65 to 3.6 V, -40 to 85 degC, 16-Pin QFN, Pb-Free, Tape and Reel; Manufacturer: On Semiconductor; PartNumber: NLAS4783MN1R2G; VCC Max (V): 3.6; VCC Min (V): 1.65; DatasheetVersion: Rev. 3; PackageVersion: Rev. A, 06/2008; PackageReference: QFN-16-485AE-01_A; PackageDescription: 16-Pin Quad Flat No-Lead, Body 3 x 3 mm, Pitch 0.5 mm; Supplier 1: Digi-Key; Supplier Part Number 1: NLAS4783MN1R2GOSTR-ND; Supplier 2: Digi-Key; Supplier Part Number 2: NLAS4783MN1R2GOSCT-ND; Supplier 3: Mouser; Supplier Part Number 3: 863-NLAS4783MN1R2G; Packing: Tape and Reel; RoHS: TRUE; Mounting Technology: Surface Mount; Code_JEDEC: MO-220; ComponentLink1Description: Manufacturer URL; ComponentLink1URL: http://www.onsemi.com/; ComponentLink2Description: Datasheet; ComponentLink2URL: http://www.onsemi.cn/pub_link/Collateral/NLAS4783-D.PDF; ComponentLink3Description: Package Specification; ComponentLink3URL: http://www.onsemi.cn/pub_link/Collateral/NLAS3899B-D.PDF
footprint ONSC-QFN-16-485AE-01_A_N (QFN, 16-Leads, Body 3x3mm, Pitch 0.5mm, Thermal Pad 1.4x1.4mm, IPC Medium Density)
footprint ONSC-QFN-16-485AE-01_A_L (QFN, 16-Leads, Body 3x3mm, Pitch 0.5mm, Thermal Pad 1.4x1.4mm, IPC High Density)
footprint ONSC-QFN-16-485AE-01_A_M (QFN, 16-Leads, Body 3x3mm, Pitch 0.5mm, Thermal Pad 1.4x1.4mm, IPC Low Density)
pins: 1 Z1 "Analog Switch Z Normally Open Input", 2 Z "Analog Switch Z Output", 3 Z0 "Analog Switch Z Normally Closed Input", 4 ~{EN} (in) "Digital Enable Input. Normally connect to GND. Drive to logic high to set all switches off.", 5 NC "No Connection. Not internally connected.", 6 GND (power) "Ground", 7 C (in) "Digital Address C Input", 8 B (in) "Digital Address B Input", 9 A (in) "Digital Address A Input", 10 X0 "Analog Switch X Normally Closed Input", 11 X1 "Analog Switch X Normally Open Input", 12 X "Analog Switch X Output", 13 Y "Analog Switch Y Output", 14 VCC (power) "Positive Analog and Digital Supply Voltage Input", 15 Y1 "Analog Switch Y Normally Open Input", 16 Y0 "Analog Switch Y Normally Closed Input", 17 EP

## NLAS5123MNR2G
designator U?
SPDT, 1.0 Ohm RON Switch, 1.65 to 5.5 V, -40 to 85 degC, 6-Pin WDFN, Pb-Free, Tape and Reel; Manufacturer: On Semiconductor; PartNumber: NLAS5123MNR2G; VCC Max (V): 5.5; VCC Min (V): 1.65; DatasheetVersion: Rev. 4; PackageVersion: Rev. D, 08/2013; PackageReference: WDFN-6-506AS-01; PackageDescription: 6-Pin Small Outline No-Lead, Body 1.2 x 1 mm, Pitch 0.4 mm; Supplier 1: Digi-Key; Supplier Part Number 1: NLAS5123MNR2GOSTR-ND; Supplier 2: Digi-Key; Supplier Part Number 2: NLAS5123MNR2GOSCT-ND; Supplier 3: Mouser; Supplier Part Number 3: 863-NLAS5123MNR2G; Packing: Tape and Reel; RoHS: TRUE; Mounting Technology: Surface Mount; ComponentLink1Description: Manufacturer URL; ComponentLink1URL: http://www.onsemi.com/; ComponentLink2Description: Datasheet; ComponentLink2URL: http://www.onsemi.cn/pub_link/Collateral/NLAS5123-D.PDF; ComponentLink3Description: Package Specification; ComponentLink3URL: http://www.onsemi.cn/pub_link/Collateral/506AS.PDF
footprint ONSC-WDFN-6-506AS-01_V (SON, 6-Leads, Body 1.2x1mm, Pitch 0.4mm)
pins: 1 NO "Data Ports", 2 GND (power), 3 NC "Data Ports", 4 COM "Data Ports", 5 VCC (power), 6 IN (in) "Control Input"

## NLAS5123MUR2G
designator U?
SPDT, 1.0 Ohm RON Switch, 1.65 to 5.5 V, -40 to 85 degC, 6-Pin UDFN, Pb-Free, Tape and Reel; Manufacturer: On Semiconductor; PartNumber: NLAS5123MUR2G; VCC Max (V): 5.5; VCC Min (V): 1.65; DatasheetVersion: Rev. 4; PackageVersion: Rev. D, 09/2010; PackageReference: UDFN-6-517AA-01; PackageDescription: 6-Pin Small Outline No-Lead, Body 1.2 x 1 mm, Pitch 0.4 mm; Supplier 1: Digi-Key; Supplier Part Number 1: NLAS5123MUR2GOSTR-ND; Supplier 2: Digi-Key; Supplier Part Number 2: NLAS5123MUR2GOSCT-ND; Supplier 3: Newark; Supplier Part Number 3: 27M2658; Supplier 4: Mouser; Supplier Part Number 4: 863-NLAS5123MUR2G; Packing: Tape and Reel; RoHS: TRUE; Mounting Technology: Surface Mount; ComponentLink1Description: Manufacturer URL; ComponentLink1URL: http://www.onsemi.com/; ComponentLink2Description: Datasheet; ComponentLink2URL: http://www.onsemi.cn/pub_link/Collateral/NLAS5123-D.PDF; ComponentLink3Description: Package Specification; ComponentLink3URL: http://www.onsemi.com/pub_link/Collateral/517AA.PDF
footprint ONSC-UDFN-6-517AA-01_V (SON, 6-Leads, Body 1.2x1mm, Pitch 0.4mm)
pins: 1 NO "Data Ports", 2 GND (power), 3 NC "Data Ports", 4 COM "Data Ports", 5 VCC (power), 6 IN (in) "Control Input"

## NLAS5157MUTCG
designator U?
Ultra-Low 0.4 Ohm SPDT Analog Switch, 1.65 to 4.5 V, -40 to 85 degC, 6-Pin UDFN, Pb-Free, Tape and Reel; Manufacturer: On Semiconductor; PartNumber: NLAS5157MUTCG; Icc Max (uA): 1; VCC Max (V): 4.5; VCC Min (V): 1.65; DatasheetVersion: Rev. 2; PackageVersion: Rev. O, 05/2008; PackageReference: UDFN-6-517AQ-01; PackageDescription: 6-Pin Small Outline No-Lead, Body 1.45 x 1 mm, Pitch 0.5 mm; Supplier 1: Digi-Key; Supplier Part Number 1: NLAS5157MUTCG-ND; Supplier 2: Mouser; Supplier Part Number 2: 863-NLAS5157MUTCG; Packing: Tape and Reel; RoHS: TRUE; Mounting Technology: Surface Mount; ComponentLink1Description: Manufacturer URL; ComponentLink1URL: http://www.onsemi.com/; ComponentLink2Description: Datasheet; ComponentLink2URL: http://www.onsemi.cn/pub_link/Collateral/NLAS5157-D.PDF; ComponentLink3Description: Package Specification; ComponentLink3URL: http://www.onsemi.cn/pub_link/Collateral/517AQ.PDF
footprint ONSC-UDFN-6-517AQ-01_V (SON, 6-Leads, Body 1.45x1mm, Pitch 0.5mm)
pins: 1 IN (in) "Control Input Select Line", 2 VCC (power) "Voltage Supply", 3 COM "Common Signal Line", 4 NC "Normally Closed Signal Line", 5 GND (power) "Ground", 6 NO "Normally Open Signal Line"

## NLAS5213AMUTAG
designator U?
1 Ohm RON DPST Switch, 1.65 to 4.5 V, -40 to 85 degC, 8-Pin UDFN, Pb-Free, Tape and Reel; Manufacturer: On Semiconductor; PartNumber: NLAS5213AMUTAG; Icc Max (uA): 1; VCC Max (V): 4.5; VCC Min (V): 1.65; DatasheetVersion: Rev. 2; PackageVersion: Rev. O, 11/2006; PackageReference: UDFN-8-517AJ-01; PackageDescription: 8-Pin Small Outline No-Lead, Body 1.8 x 1.2 mm, Pitch 0.4 mm; Supplier 1: Digi-Key; Supplier Part Number 1: NLAS5213AMUTAG-ND; Supplier 2: Mouser; Supplier Part Number 2: 863-NLAS5213AMUTAG; Packing: Tape and Reel; RoHS: TRUE; Mounting Technology: Surface Mount; ComponentLink1Description: Manufacturer URL; ComponentLink1URL: http://www.onsemi.com/; ComponentLink2Description: Datasheet; ComponentLink2URL: http://www.onsemi.cn/pub_link/Collateral/NLAS5213-D.PDF; ComponentLink3Description: Package Specification; ComponentLink3URL: http://www.onsemi.cn/pub_link/Collateral/517AJ.PDF.1
footprint ONSC-UDFN-8-517AJ-01_V (SON, 8-Leads, Body 1.8x1.2mm, Pitch 0.4mm)
pins: 1 NO1 "Normally Open Signal Line of Switch 1", 2 IN (in) "Control Input", 3 NC "No Connect", 4 NO2 "Normally Open Signal Line of Switch 2", 5 COM2 "Common Signal Line of Switch 2", 6 VCC (power) "Analog Supply Voltage", 7 GND (power) "Ground", 8 COM1 "Common Signal Line of Switch 1"

## NLAS5213AUSG
designator U?
1 Ohm RON DPST Switch, 1.65 to 4.5 V, -40 to 85 degC, 8-Pin US, Pb-Free, Tape and Reel; Manufacturer: On Semiconductor; PartNumber: NLAS5213AUSG; Icc Max (uA): 1; VCC Max (V): 4.5; VCC Min (V): 1.65; DatasheetVersion: Rev. 2; PackageVersion: Rev. B, 04/2006; PackageReference: US-8-493-02; PackageDescription: 8-Pin Small Outline Package, Body 2 x 2.3 mm, Pitch 0.5 mm; Supplier 1: Digi-Key; Supplier Part Number 1: NLAS5213AUSG-ND; Supplier 2: Mouser; Supplier Part Number 2: 863-NLAS5213AUSG; Packing: Tape and Reel; RoHS: TRUE; Mounting Technology: Surface Mount; ComponentLink1Description: Manufacturer URL; ComponentLink1URL: http://www.onsemi.com/; ComponentLink2Description: Datasheet; ComponentLink2URL: http://www.onsemi.cn/pub_link/Collateral/NLAS5213-D.PDF; ComponentLink3Description: Package Specification; ComponentLink3URL: http://www.onsemi.com/pub_link/Collateral/493-01.PDF
footprint ONSC-US-8-493-02_V (SOP, 8-Leads, Body 2.4x2.1mm, Pitch 0.5mm)
pins: 1 COM1 "Common Signal Line of Switch 1", 2 GND (power) "Ground", 3 VCC (power) "Analog Supply Voltage", 4 COM2 "Common Signal Line of Switch 2", 5 NO2 "Normally Open Signal Line of Switch 2", 6 NC "No Connect", 7 IN (in) "Control Input", 8 NO1 "Normally Open Signal Line of Switch 1"

## NLAS5213BMUTAG
designator U?
1 Ohm RON Dual SPST Switch, 1.65 to 4.5 V, -40 to 85 degC, 8-Pin UDFN, Pb-Free, Tape and Reel; Manufacturer: On Semiconductor; PartNumber: NLAS5213BMUTAG; Icc Max (uA): 1; VCC Max (V): 4.5; VCC Min (V): 1.65; DatasheetVersion: Rev. 2; PackageVersion: Rev. O, 11/2006; PackageReference: UDFN-8-517AJ-01; PackageDescription: 8-Pin Small Outline No-Lead, Body 1.8 x 1.2 mm, Pitch 0.4 mm; Supplier 1: Digi-Key; Supplier Part Number 1: NLAS5213BMUTAG-ND; Supplier 2: Newark; Supplier Part Number 2: 57M9873; Supplier 3: Mouser; Supplier Part Number 3: 863-NLAS5213BMUTAG; Packing: Tape and Reel; RoHS: TRUE; Mounting Technology: Surface Mount; ComponentLink1Description: Manufacturer URL; ComponentLink1URL: http://www.onsemi.com/; ComponentLink2Description: Datasheet; ComponentLink2URL: http://www.onsemi.cn/pub_link/Collateral/NLAS5213-D.PDF; ComponentLink3Description: Package Specification; ComponentLink3URL: http://www.onsemi.cn/pub_link/Collateral/517AJ.PDF.1
footprint ONSC-UDFN-8-517AJ-01_V (SON, 8-Leads, Body 1.8x1.2mm, Pitch 0.4mm)
pins: 1 NO1 "Normally Open Signal Line of Switch 1", 2 IN1 (in) "Control Input of Switch 1", 3 IN2 (in) "Control Input of Switch 2", 4 NO2 "Normally Open Signal Line of Switch 2", 5 COM2 "Common Signal Line of Switch 2", 6 VCC (power) "Analog Supply Voltage", 7 GND (power) "Ground", 8 COM1 "Common Signal Line of Switch 1"

## NLAS5213BUSG
designator U?
1 Ohm RON Dual SPST Switch, 1.65 to 4.5 V, -40 to 85 degC, 8-Pin US, Pb-Free, Tape and Reel; Manufacturer: On Semiconductor; PartNumber: NLAS5213BUSG; Icc Max (uA): 1; VCC Max (V): 4.5; VCC Min (V): 1.65; DatasheetVersion: Rev. 2; PackageVersion: Rev. B, 04/2006; PackageReference: US-8-493-02; PackageDescription: 8-Pin Small Outline Package, Body 2 x 2.3 mm, Pitch 0.5 mm; Supplier 1: Digi-Key; Supplier Part Number 1: NLAS5213BUSG-ND; Supplier 2: Mouser; Supplier Part Number 2: 863-NLAS5213BUSG; Packing: Tape and Reel; RoHS: TRUE; Mounting Technology: Surface Mount; ComponentLink1Description: Manufacturer URL; ComponentLink1URL: http://www.onsemi.com/; ComponentLink2Description: Datasheet; ComponentLink2URL: http://www.onsemi.cn/pub_link/Collateral/NLAS5213-D.PDF; ComponentLink3Description: Package Specification; ComponentLink3URL: http://www.onsemi.com/pub_link/Collateral/493-01.PDF
footprint ONSC-US-8-493-02_V (SOP, 8-Leads, Body 2.4x2.1mm, Pitch 0.5mm)
pins: 1 COM1 "Common Signal Line of Switch 1", 2 GND (power) "Ground", 3 VCC (power) "Analog Supply Voltage", 4 COM2 "Common Signal Line of Switch 2", 5 NO2 "Normally Open Signal Line of Switch 2", 6 IN2 (in) "Control Input of Switch 2", 7 IN1 (in) "Control Input of Switch 1", 8 NO1 "Normally Open Signal Line of Switch 1"

## NLAS5223BLMNR2G
designator U?
Ultra-Low 0.35 Ohm Dual SPDT Analog Switch, 1.65 to 4.5 V, -40 to 85 degC, 10-Pin WQFN, Pb-Free, Tape and Reel; Manufacturer: On Semiconductor; PartNumber: NLAS5223BLMNR2G; VCC Max (V): 4.5; VCC Min (V): 1.65; DatasheetVersion: Rev. 8; PackageVersion: Rev. C, 06/2007; PackageReference: WQFN-10-488AQ-01; PackageDescription: 10-Pin Quad Flat No-Lead, Body 1.4 x 1.8 mm, Pitch 0.4 mm; Supplier 1: Digi-Key; Supplier Part Number 1: NLAS5223BLMNR2G-ND; Supplier 2: Mouser; Supplier Part Number 2: 863-NLAS5223BLMNR2G; Packing: Tape and Reel; RoHS: TRUE; Mounting Technology: Surface Mount; ComponentLink1Description: Manufacturer URL; ComponentLink1URL: http://www.onsemi.com/; ComponentLink2Description: Datasheet; ComponentLink2URL: http://www.onsemi.cn/pub_link/Collateral/NLAS5223B-D.PDF; ComponentLink3Description: Package Specification; ComponentLink3URL: http://www.onsemi.cn/pub_link/Collateral/488AQ.PDF
footprint ONSC-WQFN-10-488AQ-01_V (QFN, 10-Leads, Body 1.8x1.4mm, Pitch 0.4mm)
pins: 1 VCC (power), 2 NO1, 3 COM1, 4 IN1 (in), 5 NC1, 6 GND (power), 7 NC2, 8 IN2 (in), 9 COM2, 10 NO2

## NLAS5223BMNR2G
designator U?
Ultra-Low 0.35 Ohm Dual SPDT Analog Switch, 1.65 to 4.5 V, -40 to 85 degC, 10-Pin WQFN, Pb-Free, Tape and Reel; Manufacturer: On Semiconductor; PartNumber: NLAS5223BMNR2G; VCC Max (V): 4.5; VCC Min (V): 1.65; DatasheetVersion: Rev. 8; PackageVersion: Rev. C, 06/2007; PackageReference: WQFN-10-488AQ-01; PackageDescription: 10-Pin Quad Flat No-Lead, Body 1.4 x 1.8 mm, Pitch 0.4 mm; Supplier 1: Digi-Key; Supplier Part Number 1: NLAS5223BMNR2GOSTR-ND; Supplier 2: Digi-Key; Supplier Part Number 2: NLAS5223BMNR2GOSCT-ND; Supplier 3: Mouser; Supplier Part Number 3: 863-NLAS5223BMNR2G; Packing: Tape and Reel; RoHS: TRUE; Mounting Technology: Surface Mount; ComponentLink1Description: Manufacturer URL; ComponentLink1URL: http://www.onsemi.com/; ComponentLink2Description: Datasheet; ComponentLink2URL: http://www.onsemi.cn/pub_link/Collateral/NLAS5223B-D.PDF; ComponentLink3Description: Package Specification; ComponentLink3URL: http://www.onsemi.cn/pub_link/Collateral/488AQ.PDF
footprint ONSC-WQFN-10-488AQ-01_V (QFN, 10-Leads, Body 1.8x1.4mm, Pitch 0.4mm)
pins: 1 VCC (power), 2 NO1, 3 COM1, 4 IN1 (in), 5 NC1, 6 GND (power), 7 NC2, 8 IN2 (in), 9 COM2, 10 NO2

## NLAS5223BMUR2G
designator U?
Ultra-Low 0.35 Ohm Dual SPDT Analog Switch, 1.65 to 4.5 V, -40 to 85 degC, 10-Pin UQFN, Pb-Free, Tape and Reel; Manufacturer: On Semiconductor; PartNumber: NLAS5223BMUR2G; VCC Max (V): 4.5; VCC Min (V): 1.65; DatasheetVersion: Rev. 8; PackageVersion: Rev. A, 08/2007; PackageReference: UQFN-10-488AT-01; PackageDescription: 10-Pin Quad Flat No-Lead, Body 1.4 x 1.8 mm, Pitch 0.4 mm; Supplier 1: Digi-Key; Supplier Part Number 1: NLAS5223BMUR2G-ND; Supplier 2: Mouser; Supplier Part Number 2: 863-NLAS5223BMUR2G; Packing: Tape and Reel; RoHS: TRUE; Mounting Technology: Surface Mount; ComponentLink1Description: Manufacturer URL; ComponentLink1URL: http://www.onsemi.com/; ComponentLink2Description: Datasheet; ComponentLink2URL: http://www.onsemi.cn/pub_link/Collateral/NLAS5223B-D.PDF; ComponentLink3Description: Package Specification; ComponentLink3URL: http://www.onsemi.cn/pub_link/Collateral/488AT.PDF
footprint ONSC-UQFN-10-488AT-01_V (QFN, 10-Leads, Body 1.8x1.4mm, Pitch 0.4mm)
pins: 1 VCC (power), 2 NO1, 3 COM1, 4 IN1 (in), 5 NC1, 6 GND (power), 7 NC2, 8 IN2 (in), 9 COM2, 10 NO2

## NLAS5223LMNR2G
designator U?
Ultra-Low 0.5 Ohm Dual SPDT Analog Switch, 1.65 to 3.6 V, -40 to 85 degC, 10-Pin WQFN, Pb-Free, Tape and Reel; Manufacturer: On Semiconductor; PartNumber: NLAS5223LMNR2G; VCC Max (V): 3.6; VCC Min (V): 1.65; DatasheetVersion: Rev. 5; PackageVersion: Rev. C, 06/2007; PackageReference: WQFN-10-488AQ-01; PackageDescription: 10-Pin Quad Flat No-Lead, Body 1.4 x 1.8 mm, Pitch 0.4 mm; Supplier 1: Digi-Key; Supplier Part Number 1: NLAS5223LMNR2GOSTR-ND; Supplier 2: Digi-Key; Supplier Part Number 2: NLAS5223LMNR2GOSCT-ND; Supplier 3: Mouser; Supplier Part Number 3: 863-NLAS5223LMNR2G; Packing: Tape and Reel; RoHS: TRUE; Mounting Technology: Surface Mount; ComponentLink1Description: Manufacturer URL; ComponentLink1URL: http://www.onsemi.com/; ComponentLink2Description: Datasheet; ComponentLink2URL: http://www.onsemi.cn/pub_link/Collateral/NLAS5223-D.PDF; ComponentLink3Description: Package Specification; ComponentLink3URL: http://www.onsemi.cn/pub_link/Collateral/488AQ.PDF
footprint ONSC-WQFN-10-488AQ-01_V (QFN, 10-Leads, Body 1.8x1.4mm, Pitch 0.4mm)
pins: 1 VCC (power), 2 NO1, 3 COM1, 4 IN1 (in), 5 NC1, 6 GND (power), 7 NC2, 8 IN2 (in), 9 COM2, 10 NO2

## NLAS5223MNR2G
designator U?
Ultra-Low 0.5 Ohm Dual SPDT Analog Switch, 1.65 to 3.6 V, -40 to 85 degC, 10-Pin WQFN, Pb-Free, Tape and Reel; Manufacturer: On Semiconductor; PartNumber: NLAS5223MNR2G; VCC Max (V): 3.6; VCC Min (V): 1.65; DatasheetVersion: Rev. 5; PackageVersion: Rev. C, 06/2007; PackageReference: WQFN-10-488AQ-01; PackageDescription: 10-Pin Quad Flat No-Lead, Body 1.4 x 1.8 mm, Pitch 0.4 mm; Supplier 1: Digi-Key; Supplier Part Number 1: NLAS5223MNR2GOSTR-ND; Supplier 2: Digi-Key; Supplier Part Number 2: NLAS5223MNR2GOSCT-ND; Supplier 3: Newark; Supplier Part Number 3: 83K8666; Supplier 4: Mouser; Supplier Part Number 4: 863-NLAS5223MNR2G; Packing: Tape and Reel; RoHS: TRUE; Mounting Technology: Surface Mount; ComponentLink1Description: Manufacturer URL; ComponentLink1URL: http://www.onsemi.com/; ComponentLink2Description: Datasheet; ComponentLink2URL: http://www.onsemi.cn/pub_link/Collateral/NLAS5223-D.PDF; ComponentLink3Description: Package Specification; ComponentLink3URL: http://www.onsemi.cn/pub_link/Collateral/488AQ.PDF
footprint ONSC-WQFN-10-488AQ-01_V (QFN, 10-Leads, Body 1.8x1.4mm, Pitch 0.4mm)
pins: 1 VCC (power), 2 NO1, 3 COM1, 4 IN1 (in), 5 NC1, 6 GND (power), 7 NC2, 8 IN2 (in), 9 COM2, 10 NO2

## NLAS52231MUR2G
designator U?
Ultra-Low 0.4 Ohm Dual SPDT Analog Switch with Overshoot Protection, 1.65 to 4.5 V, -40 to 85 degC, 10-Pin UQFN, Pb-Free, Tape and Reel; Manufacturer: On Semiconductor; PartNumber: NLAS52231MUR2G; VCC Max (V): 4.5; VCC Min (V): 1.65; DatasheetVersion: Rev. 2; PackageVersion: Rev. A, 08/2007; PackageReference: UQFN-10-488AT-01; PackageDescription: 10-Pin Quad Flat No-Lead, Body 1.4 x 1.8 mm, Pitch 0.4 mm; Supplier 1: Digi-Key; Supplier Part Number 1: NLAS52231MUR2GOSTR-ND; Supplier 2: Digi-Key; Supplier Part Number 2: NLAS52231MUR2GOSCT-ND; Supplier 3: Digi-Key; Supplier Part Number 3: NLAS52231MUR2GOSDKR-ND; Supplier 4: Newark; Supplier Part Number 4: 58T8263; Supplier 5: Newark; Supplier Part Number 5: 75M5172; Supplier 6: Mouser; Supplier Part Number 6: 863-NLAS52231MUR2G; Packing: Tape and Reel; RoHS: TRUE; Mounting Technology: Surface Mount; ComponentLink1Description: Manufacturer URL; ComponentLink1URL: http://www.onsemi.com/; ComponentLink2Description: Datasheet; ComponentLink2URL: http://www.onsemi.cn/pub_link/Collateral/NLAS52231.PDF; ComponentLink3Description: Package Specification; ComponentLink3URL: http://www.onsemi.cn/pub_link/Collateral/488AT.PDF
footprint ONSC-UQFN-10-488AT-01_V (QFN, 10-Leads, Body 1.8x1.4mm, Pitch 0.4mm)
pins: 1 VCC (power), 2 NO1, 3 COM1, 4 IN1 (in), 5 NC1, 6 GND (power), 7 NC2, 8 IN2 (in), 9 COM2, 10 NO2

## NS5A4684SMNTAG
designator U?
Ultra-Low Resistance Dual SPDT Analog Switch, 1.65 to 5.5 V, -40 to 85 degC, 10-Pin WQFN, Pb-Free, Tape and Reel; Manufacturer: On Semiconductor; PartNumber: NS5A4684SMNTAG; VCC Max (V): 5.5; VCC Min (V): 1.65; DatasheetVersion: Rev. 1; PackageVersion: Rev. C, 06/2007; PackageReference: WQFN-10-488AQ-01; PackageDescription: 10-Pin Quad Flat No-Lead, Body 1.4 x 1.8 mm, Pitch 0.4 mm; Supplier 1: Digi-Key; Supplier Part Number 1: NS5A4684SMNTAG-ND; Supplier 2: Newark; Supplier Part Number 2: 97W6373; Supplier 3: Mouser; Supplier Part Number 3: 863-NS5A4684SMNTAG; Packing: Tape and Reel; RoHS: TRUE; Mounting Technology: Surface Mount; ComponentLink1Description: Manufacturer URL; ComponentLink1URL: http://www.onsemi.com/; ComponentLink2Description: Datasheet; ComponentLink2URL: http://www.onsemi.cn/pub_link/Collateral/NS5A4684S-D.PDF; ComponentLink3Description: Package Specification; ComponentLink3URL: http://www.onsemi.cn/pub_link/Collateral/488AQ.PDF
footprint ONSC-WQFN-10-488AQ-01_V (QFN, 10-Leads, Body 1.8x1.4mm, Pitch 0.4mm)
pins: 1 VCC (power), 2 NO1, 3 COM1, 4 IN1 (in), 5 NC1, 6 GND (power), 7 NC2, 8 IN2 (in), 9 COM2, 10 NO2

## NS5A4684SMNTBG
designator U?
Ultra-Low Resistance Dual SPDT Analog Switch, 1.65 to 5.5 V, -40 to 85 degC, 10-Pin WQFN, Pb-Free, Tape and Reel; Manufacturer: On Semiconductor; PartNumber: NS5A4684SMNTBG; VCC Max (V): 5.5; VCC Min (V): 1.65; DatasheetVersion: Rev. 1; PackageVersion: Rev. C, 06/2007; PackageReference: WQFN-10-488AQ-01; PackageDescription: 10-Pin Quad Flat No-Lead, Body 1.4 x 1.8 mm, Pitch 0.4 mm; Supplier 1: Digi-Key; Supplier Part Number 1: NS5A4684SMNTBG-ND; Supplier 2: Mouser; Supplier Part Number 2: 863-NS5A4684SMNTBG; Packing: Tape and Reel; RoHS: TRUE; Mounting Technology: Surface Mount; ComponentLink1Description: Manufacturer URL; ComponentLink1URL: http://www.onsemi.com/; ComponentLink2Description: Datasheet; ComponentLink2URL: http://www.onsemi.cn/pub_link/Collateral/NS5A4684S-D.PDF; ComponentLink3Description: Package Specification; ComponentLink3URL: http://www.onsemi.cn/pub_link/Collateral/488AQ.PDF
footprint ONSC-WQFN-10-488AQ-01_V (QFN, 10-Leads, Body 1.8x1.4mm, Pitch 0.4mm)
pins: 1 VCC (power), 2 NO1, 3 COM1, 4 IN1 (in), 5 NC1, 6 GND (power), 7 NC2, 8 IN2 (in), 9 COM2, 10 NO2